# Altium schematic symbol library TPS259481AYWP.Schlib: 1 symbol
Pins are listed as number, name and electrical type; pins without a type are passive.

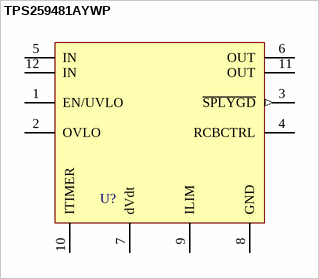
[diagram p0: symbol TPS259481AYWP]

## TPS259481AYWP
designator U?
3.5V–23V, 12.2mΩ, 8A eFuse With Bi-directional Power Delivery, Auto-Retry
pins: 1 EN/UVLO (power), 2 OVLO (power), 3 ~{SPLYGD} (out), 4 RCBCTRL (hiz), 5 IN (power), 6 OUT (power), 7 dVdt, 8 GND (power), 9 ILIM, 10 ITIMER, 11 OUT (power), 12 IN (power)